# EAGLE library part LTC6820 (library m_ic-comm)
LTC6820 isoSPI Isolated Communications Interface Linear Technologies 6820f datasheet, added 2013-05-28
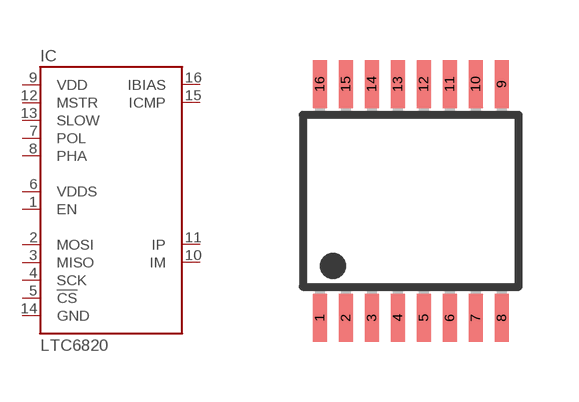
[diagram p3: symbol with the pads of TSSOP16; footprint TSSOP16]

Designator prefix IC

## LTC6820_MS (MANUF: Linear Technology; PARTNUM: LTC6820IMS)  [TSSOP16]
1  EN  pas
2  MOSI  pas
3  MISO  pas
4  SCK  pas
5  !CS  pas
6  VDDS  pas
7  POL  pas
8  PHA  pas
9  VDD  pas
10  IM  pas
11  IP  pas
12  MSTR  pas
13  SLOW  pas
14  GND  pas
15  ICMP  pas
16  IBIAS  pas

## Footprint TSSOP16 (pad centres in mm)
PW (R-PDSO-G8) Source: http://focus.ti.com/lit/ds/symlink/ads1271.pdf
smd 0.35 x 1.2: 1 -2.275,-2.925; 2 -1.625,-2.925; 3 -0.975,-2.925; 4 -0.325,-2.925; 5 0.325,-2.925; 6 0.975,-2.925; 7 1.625,-2.925; 8 2.275,-2.925; 9 2.275,2.925; 10 1.625,2.925; 11 0.975,2.925; 12 0.325,2.925; 13 -0.325,2.925; 14 -0.975,2.925; 15 -1.625,2.925; 16 -2.275,2.925